# Altium schematic symbol library yu0316-NSC_LDO.SchLib: 2590 symbols (part 46 of 64)
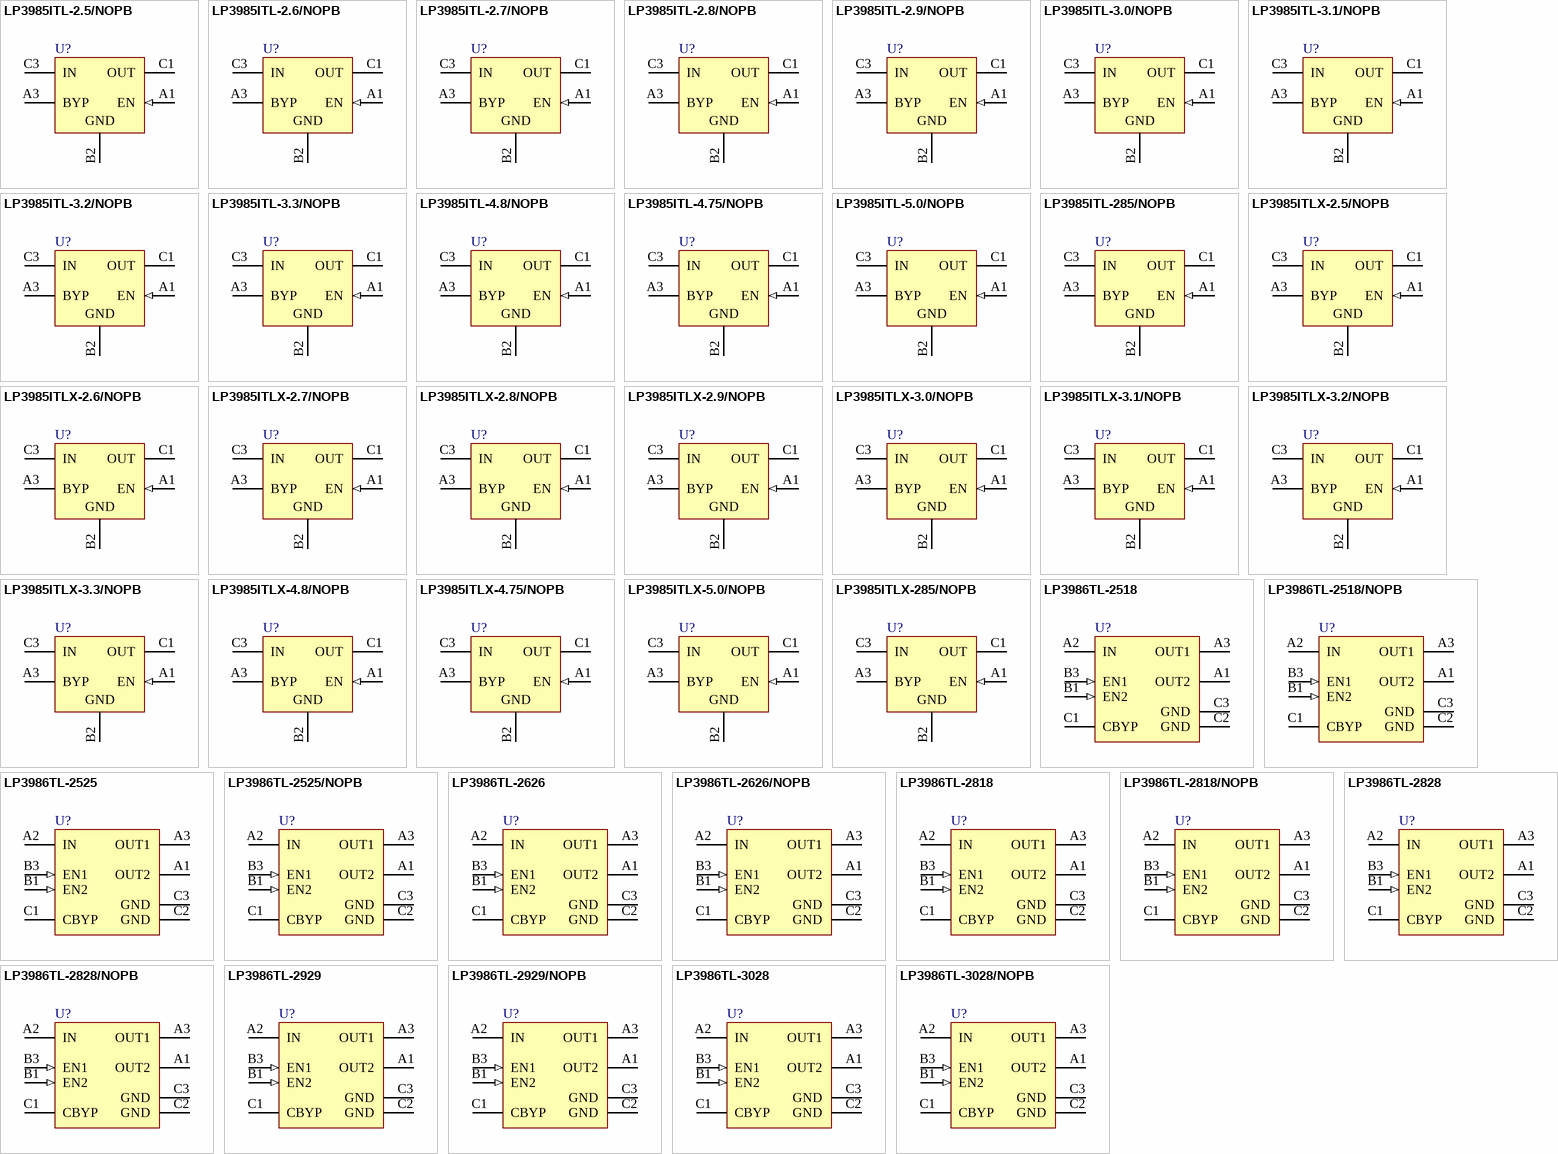
[diagram p110: symbols LP3985ITL-2.5/NOPB to LP3986TL-3028/NOPB]

## LP3985ITLX-2.5/NOPB
designator U?
Micropower, 150mA Low-Noise Ultra Low-Dropout CMOS Voltage Regulator, 5-pin Micro SMD, Pb-Free; PartNumber: LP3985ITLX-2.5/NOPB; Manufacturer: National Semiconductor; PackageTopMarking: XV*I 5; PowerWise: N; CompType: LDO IC; Published: 1-Mar-2010; DatasheetVersion: Aug-2005; PackageVersion: revC, Feb-2005; PackageReference: TLA05AEA; Publisher: Altium Limited; PackageDescription: Thin Micro SMD, 5 Bump (Large), 0.5mm Pitch; Supplier 1: Digi-Key; Supplier Part Number 1: LP3985ITLX-2.5/NOPBTR-ND; Supplier 2: Digi-Key; Supplier Part Number 2: LP3985ITLX-2.5/NOPBCT-ND; RoHS: Y; PinCount: 5; ComponentLink1Description: LP3985 Datasheet; ComponentLink1URL: http://www.national.com/ds/LP/LP3985.pdf; ComponentLink2Description: LP3985 Web Page; ComponentLink2URL: http://www.national.com/pf/LP/LP3985.html; ComponentLink3Description: TLA05AEA Package Page; ComponentLink3URL: http://www.national.com/packaging/folders/tla05aea.html
footprint TLA05AEA (Micro SMD, 5-Leads, Body 1.45x1.01mm, Pitch 0.5mm, NSC Recommended)
pins: A1 EN (in), A3 BYP, B2 GND (power), C1 OUT (power), C3 IN (power)

## LP3985ITLX-2.6/NOPB
designator U?
Micropower, 150mA Low-Noise Ultra Low-Dropout CMOS Voltage Regulator, 5-pin Micro SMD, Pb-Free; PartNumber: LP3985ITLX-2.6/NOPB; Manufacturer: National Semiconductor; PackageTopMarking: XV*I 5; PowerWise: N; CompType: LDO IC; Published: 1-Mar-2010; DatasheetVersion: Aug-2005; PackageVersion: revC, Feb-2005; PackageReference: TLA05AEA; Publisher: Altium Limited; PackageDescription: Thin Micro SMD, 5 Bump (Large), 0.5mm Pitch; Supplier 1: Digi-Key; Supplier Part Number 1: LP3985ITLX-2.6-ND; RoHS: Y; PinCount: 5; ComponentLink1Description: LP3985 Datasheet; ComponentLink1URL: http://www.national.com/ds/LP/LP3985.pdf; ComponentLink2Description: LP3985 Web Page; ComponentLink2URL: http://www.national.com/pf/LP/LP3985.html; ComponentLink3Description: TLA05AEA Package Page; ComponentLink3URL: http://www.national.com/packaging/folders/tla05aea.html
footprint TLA05AEA (Micro SMD, 5-Leads, Body 1.45x1.01mm, Pitch 0.5mm, NSC Recommended)
pins: A1 EN (in), A3 BYP, B2 GND (power), C1 OUT (power), C3 IN (power)

## LP3985ITLX-2.7/NOPB
designator U?
Micropower, 150mA Low-Noise Ultra Low-Dropout CMOS Voltage Regulator, 5-pin Micro SMD, Pb-Free; PartNumber: LP3985ITLX-2.7/NOPB; Manufacturer: National Semiconductor; PackageTopMarking: XV*I 5; PowerWise: N; CompType: LDO IC; Published: 1-Mar-2010; DatasheetVersion: Aug-2005; PackageVersion: revC, Feb-2005; PackageReference: TLA05AEA; Publisher: Altium Limited; PackageDescription: Thin Micro SMD, 5 Bump (Large), 0.5mm Pitch; Supplier 1: Digi-Key; Supplier Part Number 1: LP3985ITLX-2.7-ND; RoHS: Y; PinCount: 5; ComponentLink1Description: LP3985 Datasheet; ComponentLink1URL: http://www.national.com/ds/LP/LP3985.pdf; ComponentLink2Description: LP3985 Web Page; ComponentLink2URL: http://www.national.com/pf/LP/LP3985.html; ComponentLink3Description: TLA05AEA Package Page; ComponentLink3URL: http://www.national.com/packaging/folders/tla05aea.html
footprint TLA05AEA (Micro SMD, 5-Leads, Body 1.45x1.01mm, Pitch 0.5mm, NSC Recommended)
pins: A1 EN (in), A3 BYP, B2 GND (power), C1 OUT (power), C3 IN (power)

## LP3985ITLX-2.8/NOPB
designator U?
Micropower, 150mA Low-Noise Ultra Low-Dropout CMOS Voltage Regulator, 5-pin Micro SMD, Pb-Free; PartNumber: LP3985ITLX-2.8/NOPB; Manufacturer: National Semiconductor; PackageTopMarking: XV*I 5; PowerWise: N; CompType: LDO IC; Published: 1-Mar-2010; DatasheetVersion: Aug-2005; PackageVersion: revC, Feb-2005; PackageReference: TLA05AEA; Publisher: Altium Limited; PackageDescription: Thin Micro SMD, 5 Bump (Large), 0.5mm Pitch; Supplier 1: Digi-Key; Supplier Part Number 1: LP3985ITLX-2.8-ND; RoHS: Y; PinCount: 5; ComponentLink1Description: LP3985 Datasheet; ComponentLink1URL: http://www.national.com/ds/LP/LP3985.pdf; ComponentLink2Description: LP3985 Web Page; ComponentLink2URL: http://www.national.com/pf/LP/LP3985.html; ComponentLink3Description: TLA05AEA Package Page; ComponentLink3URL: http://www.national.com/packaging/folders/tla05aea.html
footprint TLA05AEA (Micro SMD, 5-Leads, Body 1.45x1.01mm, Pitch 0.5mm, NSC Recommended)
pins: A1 EN (in), A3 BYP, B2 GND (power), C1 OUT (power), C3 IN (power)

## LP3985ITLX-2.9/NOPB
designator U?
Micropower, 150mA Low-Noise Ultra Low-Dropout CMOS Voltage Regulator, 5-pin Micro SMD, Pb-Free; PartNumber: LP3985ITLX-2.9/NOPB; Manufacturer: National Semiconductor; PackageTopMarking: XV*I 5; PowerWise: N; CompType: LDO IC; Published: 1-Mar-2010; DatasheetVersion: Aug-2005; PackageVersion: revC, Feb-2005; PackageReference: TLA05AEA; Publisher: Altium Limited; PackageDescription: Thin Micro SMD, 5 Bump (Large), 0.5mm Pitch; Supplier 1: Digi-Key; Supplier Part Number 1: LP3985ITLX-2.9-ND; RoHS: Y; PinCount: 5; ComponentLink1Description: LP3985 Datasheet; ComponentLink1URL: http://www.national.com/ds/LP/LP3985.pdf; ComponentLink2Description: LP3985 Web Page; ComponentLink2URL: http://www.national.com/pf/LP/LP3985.html; ComponentLink3Description: TLA05AEA Package Page; ComponentLink3URL: http://www.national.com/packaging/folders/tla05aea.html
footprint TLA05AEA (Micro SMD, 5-Leads, Body 1.45x1.01mm, Pitch 0.5mm, NSC Recommended)
pins: A1 EN (in), A3 BYP, B2 GND (power), C1 OUT (power), C3 IN (power)

## LP3985ITLX-3.0/NOPB
designator U?
Micropower, 150mA Low-Noise Ultra Low-Dropout CMOS Voltage Regulator, 5-pin Micro SMD, Pb-Free; PartNumber: LP3985ITLX-3.0/NOPB; Manufacturer: National Semiconductor; PackageTopMarking: XV*I 5; PowerWise: N; CompType: LDO IC; Published: 1-Mar-2010; DatasheetVersion: Aug-2005; PackageVersion: revC, Feb-2005; PackageReference: TLA05AEA; Publisher: Altium Limited; PackageDescription: Thin Micro SMD, 5 Bump (Large), 0.5mm Pitch; Supplier 1: Digi-Key; Supplier Part Number 1: LP3985ITLX-3.0-ND; RoHS: Y; PinCount: 5; ComponentLink1Description: LP3985 Datasheet; ComponentLink1URL: http://www.national.com/ds/LP/LP3985.pdf; ComponentLink2Description: LP3985 Web Page; ComponentLink2URL: http://www.national.com/pf/LP/LP3985.html; ComponentLink3Description: TLA05AEA Package Page; ComponentLink3URL: http://www.national.com/packaging/folders/tla05aea.html
footprint TLA05AEA (Micro SMD, 5-Leads, Body 1.45x1.01mm, Pitch 0.5mm, NSC Recommended)
pins: A1 EN (in), A3 BYP, B2 GND (power), C1 OUT (power), C3 IN (power)

## LP3985ITLX-3.1/NOPB
designator U?
Micropower, 150mA Low-Noise Ultra Low-Dropout CMOS Voltage Regulator, 5-pin Micro SMD, Pb-Free; PartNumber: LP3985ITLX-3.1/NOPB; Manufacturer: National Semiconductor; PackageTopMarking: XV*I 5; PowerWise: N; CompType: LDO IC; Published: 1-Mar-2010; DatasheetVersion: Aug-2005; PackageVersion: revC, Feb-2005; PackageReference: TLA05AEA; Publisher: Altium Limited; PackageDescription: Thin Micro SMD, 5 Bump (Large), 0.5mm Pitch; Supplier 1: Digi-Key; Supplier Part Number 1: LP3985ITLX-3.1-ND; RoHS: Y; PinCount: 5; ComponentLink1Description: LP3985 Datasheet; ComponentLink1URL: http://www.national.com/ds/LP/LP3985.pdf; ComponentLink2Description: LP3985 Web Page; ComponentLink2URL: http://www.national.com/pf/LP/LP3985.html; ComponentLink3Description: TLA05AEA Package Page; ComponentLink3URL: http://www.national.com/packaging/folders/tla05aea.html
footprint TLA05AEA (Micro SMD, 5-Leads, Body 1.45x1.01mm, Pitch 0.5mm, NSC Recommended)
pins: A1 EN (in), A3 BYP, B2 GND (power), C1 OUT (power), C3 IN (power)

## LP3985ITLX-3.2/NOPB
designator U?
Micropower, 150mA Low-Noise Ultra Low-Dropout CMOS Voltage Regulator, 5-pin Micro SMD, Pb-Free; PartNumber: LP3985ITLX-3.2/NOPB; Manufacturer: National Semiconductor; PackageTopMarking: XV*I 5; PowerWise: N; CompType: LDO IC; Published: 1-Mar-2010; DatasheetVersion: Aug-2005; PackageVersion: revC, Feb-2005; PackageReference: TLA05AEA; Publisher: Altium Limited; PackageDescription: Thin Micro SMD, 5 Bump (Large), 0.5mm Pitch; Supplier 1: Digi-Key; Supplier Part Number 1: LP3985ITLX-3.2-ND; RoHS: Y; PinCount: 5; ComponentLink1Description: LP3985 Datasheet; ComponentLink1URL: http://www.national.com/ds/LP/LP3985.pdf; ComponentLink2Description: LP3985 Web Page; ComponentLink2URL: http://www.national.com/pf/LP/LP3985.html; ComponentLink3Description: TLA05AEA Package Page; ComponentLink3URL: http://www.national.com/packaging/folders/tla05aea.html
footprint TLA05AEA (Micro SMD, 5-Leads, Body 1.45x1.01mm, Pitch 0.5mm, NSC Recommended)
pins: A1 EN (in), A3 BYP, B2 GND (power), C1 OUT (power), C3 IN (power)

## LP3985ITLX-3.3/NOPB
designator U?
Micropower, 150mA Low-Noise Ultra Low-Dropout CMOS Voltage Regulator, 5-pin Micro SMD, Pb-Free; PartNumber: LP3985ITLX-3.3/NOPB; Manufacturer: National Semiconductor; PackageTopMarking: XV*I 5; PowerWise: N; CompType: LDO IC; Published: 1-Mar-2010; DatasheetVersion: Aug-2005; PackageVersion: revC, Feb-2005; PackageReference: TLA05AEA; Publisher: Altium Limited; PackageDescription: Thin Micro SMD, 5 Bump (Large), 0.5mm Pitch; Supplier 1: Digi-Key; Supplier Part Number 1: LP3985ITLX-3.3-ND; RoHS: Y; PinCount: 5; ComponentLink1Description: LP3985 Datasheet; ComponentLink1URL: http://www.national.com/ds/LP/LP3985.pdf; ComponentLink2Description: LP3985 Web Page; ComponentLink2URL: http://www.national.com/pf/LP/LP3985.html; ComponentLink3Description: TLA05AEA Package Page; ComponentLink3URL: http://www.national.com/packaging/folders/tla05aea.html
footprint TLA05AEA (Micro SMD, 5-Leads, Body 1.45x1.01mm, Pitch 0.5mm, NSC Recommended)
pins: A1 EN (in), A3 BYP, B2 GND (power), C1 OUT (power), C3 IN (power)

## LP3985ITLX-4.8/NOPB
designator U?
Micropower, 150mA Low-Noise Ultra Low-Dropout CMOS Voltage Regulator, 5-pin Micro SMD, Pb-Free; PartNumber: LP3985ITLX-4.8/NOPB; Manufacturer: National Semiconductor; PackageTopMarking: XV*I 5; PowerWise: N; CompType: LDO IC; Published: 1-Mar-2010; DatasheetVersion: Aug-2005; PackageVersion: revC, Feb-2005; PackageReference: TLA05AEA; Publisher: Altium Limited; PackageDescription: Thin Micro SMD, 5 Bump (Large), 0.5mm Pitch; Supplier 1: Digi-Key; Supplier Part Number 1: LP3985ITLX-4.8-ND; RoHS: Y; PinCount: 5; ComponentLink1Description: LP3985 Datasheet; ComponentLink1URL: http://www.national.com/ds/LP/LP3985.pdf; ComponentLink2Description: LP3985 Web Page; ComponentLink2URL: http://www.national.com/pf/LP/LP3985.html; ComponentLink3Description: TLA05AEA Package Page; ComponentLink3URL: http://www.national.com/packaging/folders/tla05aea.html
footprint TLA05AEA (Micro SMD, 5-Leads, Body 1.45x1.01mm, Pitch 0.5mm, NSC Recommended)
pins: A1 EN (in), A3 BYP, B2 GND (power), C1 OUT (power), C3 IN (power)

## LP3985ITLX-4.75/NOPB
designator U?
Micropower, 150mA Low-Noise Ultra Low-Dropout CMOS Voltage Regulator, 5-pin Micro SMD, Pb-Free; PartNumber: LP3985ITLX-4.75/NOPB; Manufacturer: National Semiconductor; PackageTopMarking: XV*I 5; PowerWise: N; CompType: LDO IC; Published: 1-Mar-2010; DatasheetVersion: Aug-2005; PackageVersion: revC, Feb-2005; PackageReference: TLA05AEA; Publisher: Altium Limited; PackageDescription: Thin Micro SMD, 5 Bump (Large), 0.5mm Pitch; Supplier 1: Digi-Key; Supplier Part Number 1: LP3985ITLX-4.75-ND; RoHS: Y; PinCount: 5; ComponentLink1Description: LP3985 Datasheet; ComponentLink1URL: http://www.national.com/ds/LP/LP3985.pdf; ComponentLink2Description: LP3985 Web Page; ComponentLink2URL: http://www.national.com/pf/LP/LP3985.html; ComponentLink3Description: TLA05AEA Package Page; ComponentLink3URL: http://www.national.com/packaging/folders/tla05aea.html
footprint TLA05AEA (Micro SMD, 5-Leads, Body 1.45x1.01mm, Pitch 0.5mm, NSC Recommended)
pins: A1 EN (in), A3 BYP, B2 GND (power), C1 OUT (power), C3 IN (power)

## LP3985ITLX-5.0/NOPB
designator U?
Micropower, 150mA Low-Noise Ultra Low-Dropout CMOS Voltage Regulator, 5-pin Micro SMD, Pb-Free; PartNumber: LP3985ITLX-5.0/NOPB; Manufacturer: National Semiconductor; PackageTopMarking: XV*I 5; PowerWise: N; CompType: LDO IC; Published: 1-Mar-2010; DatasheetVersion: Aug-2005; PackageVersion: revC, Feb-2005; PackageReference: TLA05AEA; Publisher: Altium Limited; PackageDescription: Thin Micro SMD, 5 Bump (Large), 0.5mm Pitch; Supplier 1: Digi-Key; Supplier Part Number 1: LP3985ITLX-5.0-ND; RoHS: Y; PinCount: 5; ComponentLink1Description: LP3985 Datasheet; ComponentLink1URL: http://www.national.com/ds/LP/LP3985.pdf; ComponentLink2Description: LP3985 Web Page; ComponentLink2URL: http://www.national.com/pf/LP/LP3985.html; ComponentLink3Description: TLA05AEA Package Page; ComponentLink3URL: http://www.national.com/packaging/folders/tla05aea.html
footprint TLA05AEA (Micro SMD, 5-Leads, Body 1.45x1.01mm, Pitch 0.5mm, NSC Recommended)
pins: A1 EN (in), A3 BYP, B2 GND (power), C1 OUT (power), C3 IN (power)

## LP3985ITLX-285/NOPB
designator U?
Micropower, 150mA Low-Noise Ultra Low-Dropout CMOS Voltage Regulator, 5-pin Micro SMD, Pb-Free; PartNumber: LP3985ITLX-285/NOPB; Manufacturer: National Semiconductor; PackageTopMarking: XV*I 5; PowerWise: N; CompType: LDO IC; Published: 1-Mar-2010; DatasheetVersion: Aug-2005; PackageVersion: revC, Feb-2005; PackageReference: TLA05AEA; Publisher: Altium Limited; PackageDescription: Thin Micro SMD, 5 Bump (Large), 0.5mm Pitch; Supplier 1: Digi-Key; Supplier Part Number 1: LP3985ITLX-285-ND; RoHS: Y; PinCount: 5; ComponentLink1Description: LP3985 Datasheet; ComponentLink1URL: http://www.national.com/ds/LP/LP3985.pdf; ComponentLink2Description: LP3985 Web Page; ComponentLink2URL: http://www.national.com/pf/LP/LP3985.html; ComponentLink3Description: TLA05AEA Package Page; ComponentLink3URL: http://www.national.com/packaging/folders/tla05aea.html
footprint TLA05AEA (Micro SMD, 5-Leads, Body 1.45x1.01mm, Pitch 0.5mm, NSC Recommended)
pins: A1 EN (in), A3 BYP, B2 GND (power), C1 OUT (power), C3 IN (power)

## LP3986TL-2518
designator U?
Dual Micropower 150 mA Ultra Low-Dropout CMOS Voltage Regulators, 8-pin Micro SMD; PartNumber: LP3986TL-2518; Manufacturer: National Semiconductor; PackageTopMarking: XVD*I 30; PowerWise: N; CompType: LDO IC; Published: 4-Dec-2008; DatasheetVersion: Feb-2007; PackageVersion: revC, Jan-2004; PackageReference: TLA08CCA; Publisher: Altium Limited; PackageDescription: Thin Micro SMD, 8 Bump (Large), 0.5mm Pitch; RoHS: Y; PinCount: 8; Code_JEDEC: MO-211-DD; ComponentLink1Description: LP3986 Datasheet; ComponentLink1URL: http://www.national.com/ds/LP/LP3986.pdf; ComponentLink2Description: LP3986 Web Page; ComponentLink2URL: http://www.national.com/pf/LP/LP3986.html; ComponentLink3Description: TLA08CCA Package Page; ComponentLink3URL: http://www.national.com/packaging/folders/tla08cca.html
footprint TLA08CCA (Micro SMD, 8-Leads, Body 1.57x1.57mm, Pitch 0.5mm, NSC Recommended)
pins: A1 OUT2 (power), A2 IN (power), A3 OUT1 (power), B1 EN2 (in), B3 EN1 (in), C1 CBYP, C2 GND (power), C3 GND (power)

## LP3986TL-2518/NOPB
designator U?
Dual Micropower 150 mA Ultra Low-Dropout CMOS Voltage Regulators, 8-pin Micro SMD, Pb-Free; PartNumber: LP3986TL-2518/NOPB; Manufacturer: National Semiconductor; PackageTopMarking: XVD*I 30; PowerWise: N; CompType: LDO IC; Published: 1-Mar-2010; DatasheetVersion: Feb-2007; PackageVersion: revC, Jan-2004; PackageReference: TLA08CCA; Publisher: Altium Limited; PackageDescription: Thin Micro SMD, 8 Bump (Large), 0.5mm Pitch; Supplier 1: Digi-Key; Supplier Part Number 1: LP3986TL-2518TR-ND; Supplier 2: Digi-Key; Supplier Part Number 2: LP3986TL-2518CT-ND; Supplier 3: Digi-Key; Supplier Part Number 3: LP3986TL-2518DKR-ND; RoHS: Y; PinCount: 8; Code_JEDEC: MO-211-DD; ComponentLink1Description: LP3986 Datasheet; ComponentLink1URL: http://www.national.com/ds/LP/LP3986.pdf; ComponentLink2Description: LP3986 Web Page; ComponentLink2URL: http://www.national.com/pf/LP/LP3986.html; ComponentLink3Description: TLA08CCA Package Page; ComponentLink3URL: http://www.national.com/packaging/folders/tla08cca.html
footprint TLA08CCA (Micro SMD, 8-Leads, Body 1.57x1.57mm, Pitch 0.5mm, NSC Recommended)
pins: A1 OUT2 (power), A2 IN (power), A3 OUT1 (power), B1 EN2 (in), B3 EN1 (in), C1 CBYP, C2 GND (power), C3 GND (power)

## LP3986TL-2525
designator U?
Dual Micropower 150 mA Ultra Low-Dropout CMOS Voltage Regulators, 8-pin Micro SMD; PartNumber: LP3986TL-2525; Manufacturer: National Semiconductor; PackageTopMarking: XVD*I 27; PowerWise: N; CompType: LDO IC; Published: 4-Dec-2008; DatasheetVersion: Feb-2007; PackageVersion: revC, Jan-2004; PackageReference: TLA08CCA; Publisher: Altium Limited; PackageDescription: Thin Micro SMD, 8 Bump (Large), 0.5mm Pitch; Supplier 1: Farnell; Supplier Part Number 1: 1008071; RoHS: Y; PinCount: 8; Code_JEDEC: MO-211-DD; ComponentLink1Description: LP3986 Datasheet; ComponentLink1URL: http://www.national.com/ds/LP/LP3986.pdf; ComponentLink2Description: LP3986 Web Page; ComponentLink2URL: http://www.national.com/pf/LP/LP3986.html; ComponentLink3Description: TLA08CCA Package Page; ComponentLink3URL: http://www.national.com/packaging/folders/tla08cca.html
footprint TLA08CCA (Micro SMD, 8-Leads, Body 1.57x1.57mm, Pitch 0.5mm, NSC Recommended)
pins: A1 OUT2 (power), A2 IN (power), A3 OUT1 (power), B1 EN2 (in), B3 EN1 (in), C1 CBYP, C2 GND (power), C3 GND (power)

## LP3986TL-2525/NOPB
designator U?
Dual Micropower 150 mA Ultra Low-Dropout CMOS Voltage Regulators, 8-pin Micro SMD, Pb-Free; PartNumber: LP3986TL-2525/NOPB; Manufacturer: National Semiconductor; PackageTopMarking: XVD*I 27; PowerWise: N; CompType: LDO IC; Published: 1-Mar-2010; DatasheetVersion: Feb-2007; PackageVersion: revC, Jan-2004; PackageReference: TLA08CCA; Publisher: Altium Limited; PackageDescription: Thin Micro SMD, 8 Bump (Large), 0.5mm Pitch; Supplier 1: Digi-Key; Supplier Part Number 1: LP3986TL-2525TR-ND; Supplier 2: Digi-Key; Supplier Part Number 2: LP3986TL-2525CT-ND; Supplier 3: Digi-Key; Supplier Part Number 3: LP3986TL-2525DKR-ND; RoHS: Y; PinCount: 8; Code_JEDEC: MO-211-DD; ComponentLink1Description: LP3986 Datasheet; ComponentLink1URL: http://www.national.com/ds/LP/LP3986.pdf; ComponentLink2Description: LP3986 Web Page; ComponentLink2URL: http://www.national.com/pf/LP/LP3986.html; ComponentLink3Description: TLA08CCA Package Page; ComponentLink3URL: http://www.national.com/packaging/folders/tla08cca.html
footprint TLA08CCA (Micro SMD, 8-Leads, Body 1.57x1.57mm, Pitch 0.5mm, NSC Recommended)
pins: A1 OUT2 (power), A2 IN (power), A3 OUT1 (power), B1 EN2 (in), B3 EN1 (in), C1 CBYP, C2 GND (power), C3 GND (power)

## LP3986TL-2626
designator U?
Dual Micropower 150 mA Ultra Low-Dropout CMOS Voltage Regulators, 8-pin Micro SMD; PartNumber: LP3986TL-2626; Manufacturer: National Semiconductor; PackageTopMarking: XVD*I 28; PowerWise: N; CompType: LDO IC; Published: 4-Dec-2008; DatasheetVersion: Feb-2007; PackageVersion: revC, Jan-2004; PackageReference: TLA08CCA; Publisher: Altium Limited; PackageDescription: Thin Micro SMD, 8 Bump (Large), 0.5mm Pitch; Supplier 1: Farnell; Supplier Part Number 1: 1008072; RoHS: Y; PinCount: 8; Code_JEDEC: MO-211-DD; ComponentLink1Description: LP3986 Datasheet; ComponentLink1URL: http://www.national.com/ds/LP/LP3986.pdf; ComponentLink2Description: LP3986 Web Page; ComponentLink2URL: http://www.national.com/pf/LP/LP3986.html; ComponentLink3Description: TLA08CCA Package Page; ComponentLink3URL: http://www.national.com/packaging/folders/tla08cca.html
footprint TLA08CCA (Micro SMD, 8-Leads, Body 1.57x1.57mm, Pitch 0.5mm, NSC Recommended)
pins: A1 OUT2 (power), A2 IN (power), A3 OUT1 (power), B1 EN2 (in), B3 EN1 (in), C1 CBYP, C2 GND (power), C3 GND (power)

## LP3986TL-2626/NOPB
designator U?
Dual Micropower 150 mA Ultra Low-Dropout CMOS Voltage Regulators, 8-pin Micro SMD, Pb-Free; PartNumber: LP3986TL-2626/NOPB; Manufacturer: National Semiconductor; PackageTopMarking: XVD*I 28; PowerWise: N; CompType: LDO IC; Published: 1-Mar-2010; DatasheetVersion: Feb-2007; PackageVersion: revC, Jan-2004; PackageReference: TLA08CCA; Publisher: Altium Limited; PackageDescription: Thin Micro SMD, 8 Bump (Large), 0.5mm Pitch; Supplier 1: Digi-Key; Supplier Part Number 1: LP3986TL-2626TR-ND; Supplier 2: Digi-Key; Supplier Part Number 2: LP3986TL-2626CT-ND; RoHS: Y; PinCount: 8; Code_JEDEC: MO-211-DD; ComponentLink1Description: LP3986 Datasheet; ComponentLink1URL: http://www.national.com/ds/LP/LP3986.pdf; ComponentLink2Description: LP3986 Web Page; ComponentLink2URL: http://www.national.com/pf/LP/LP3986.html; ComponentLink3Description: TLA08CCA Package Page; ComponentLink3URL: http://www.national.com/packaging/folders/tla08cca.html
footprint TLA08CCA (Micro SMD, 8-Leads, Body 1.57x1.57mm, Pitch 0.5mm, NSC Recommended)
pins: A1 OUT2 (power), A2 IN (power), A3 OUT1 (power), B1 EN2 (in), B3 EN1 (in), C1 CBYP, C2 GND (power), C3 GND (power)

## LP3986TL-2818
designator U?
Dual Micropower 150 mA Ultra Low-Dropout CMOS Voltage Regulators, 8-pin Micro SMD; PartNumber: LP3986TL-2818; Manufacturer: National Semiconductor; PackageTopMarking: XVD*I 25; PowerWise: N; CompType: LDO IC; Published: 4-Dec-2008; DatasheetVersion: Feb-2007; PackageVersion: revC, Jan-2004; PackageReference: TLA08CCA; Publisher: Altium Limited; PackageDescription: Thin Micro SMD, 8 Bump (Large), 0.5mm Pitch; RoHS: Y; PinCount: 8; Code_JEDEC: MO-211-DD; ComponentLink1Description: LP3986 Datasheet; ComponentLink1URL: http://www.national.com/ds/LP/LP3986.pdf; ComponentLink2Description: LP3986 Web Page; ComponentLink2URL: http://www.national.com/pf/LP/LP3986.html; ComponentLink3Description: TLA08CCA Package Page; ComponentLink3URL: http://www.national.com/packaging/folders/tla08cca.html
footprint TLA08CCA (Micro SMD, 8-Leads, Body 1.57x1.57mm, Pitch 0.5mm, NSC Recommended)
pins: A1 OUT2 (power), A2 IN (power), A3 OUT1 (power), B1 EN2 (in), B3 EN1 (in), C1 CBYP, C2 GND (power), C3 GND (power)

## LP3986TL-2818/NOPB
designator U?
Dual Micropower 150 mA Ultra Low-Dropout CMOS Voltage Regulators, 8-pin Micro SMD, Pb-Free; PartNumber: LP3986TL-2818/NOPB; Manufacturer: National Semiconductor; PackageTopMarking: XVD*I 25; PowerWise: N; CompType: LDO IC; Published: 1-Mar-2010; DatasheetVersion: Feb-2007; PackageVersion: revC, Jan-2004; PackageReference: TLA08CCA; Publisher: Altium Limited; PackageDescription: Thin Micro SMD, 8 Bump (Large), 0.5mm Pitch; Supplier 1: Digi-Key; Supplier Part Number 1: LP3986TL-2818TR-ND; Supplier 2: Digi-Key; Supplier Part Number 2: LP3986TL-2818CT-ND; Supplier 3: Digi-Key; Supplier Part Number 3: LP3986TL-2818DKR-ND; RoHS: Y; PinCount: 8; Code_JEDEC: MO-211-DD; ComponentLink1Description: LP3986 Datasheet; ComponentLink1URL: http://www.national.com/ds/LP/LP3986.pdf; ComponentLink2Description: LP3986 Web Page; ComponentLink2URL: http://www.national.com/pf/LP/LP3986.html; ComponentLink3Description: TLA08CCA Package Page; ComponentLink3URL: http://www.national.com/packaging/folders/tla08cca.html
footprint TLA08CCA (Micro SMD, 8-Leads, Body 1.57x1.57mm, Pitch 0.5mm, NSC Recommended)
pins: A1 OUT2 (power), A2 IN (power), A3 OUT1 (power), B1 EN2 (in), B3 EN1 (in), C1 CBYP, C2 GND (power), C3 GND (power)

## LP3986TL-2828
designator U?
Dual Micropower 150 mA Ultra Low-Dropout CMOS Voltage Regulators, 8-pin Micro SMD; PartNumber: LP3986TL-2828; Manufacturer: National Semiconductor; PackageTopMarking: XVD*I 10; PowerWise: N; CompType: LDO IC; Published: 4-Dec-2008; DatasheetVersion: Feb-2007; PackageVersion: revC, Jan-2004; PackageReference: TLA08CCA; Publisher: Altium Limited; PackageDescription: Thin Micro SMD, 8 Bump (Large), 0.5mm Pitch; RoHS: Y; PinCount: 8; Code_JEDEC: MO-211-DD; ComponentLink1Description: LP3986 Datasheet; ComponentLink1URL: http://www.national.com/ds/LP/LP3986.pdf; ComponentLink2Description: LP3986 Web Page; ComponentLink2URL: http://www.national.com/pf/LP/LP3986.html; ComponentLink3Description: TLA08CCA Package Page; ComponentLink3URL: http://www.national.com/packaging/folders/tla08cca.html
footprint TLA08CCA (Micro SMD, 8-Leads, Body 1.57x1.57mm, Pitch 0.5mm, NSC Recommended)
pins: A1 OUT2 (power), A2 IN (power), A3 OUT1 (power), B1 EN2 (in), B3 EN1 (in), C1 CBYP, C2 GND (power), C3 GND (power)

## LP3986TL-2828/NOPB
designator U?
Dual Micropower 150 mA Ultra Low-Dropout CMOS Voltage Regulators, 8-pin Micro SMD, Pb-Free; PartNumber: LP3986TL-2828/NOPB; Manufacturer: National Semiconductor; PackageTopMarking: XVD*I 10; PowerWise: N; CompType: LDO IC; Published: 1-Mar-2010; DatasheetVersion: Feb-2007; PackageVersion: revC, Jan-2004; PackageReference: TLA08CCA; Publisher: Altium Limited; PackageDescription: Thin Micro SMD, 8 Bump (Large), 0.5mm Pitch; Supplier 1: Digi-Key; Supplier Part Number 1: LP3986TL-2828TR-ND; Supplier 2: Digi-Key; Supplier Part Number 2: LP3986TL-2828CT-ND; Supplier 3: Digi-Key; Supplier Part Number 3: LP3986TL-2828DKR-ND; RoHS: Y; PinCount: 8; Code_JEDEC: MO-211-DD; ComponentLink1Description: LP3986 Datasheet; ComponentLink1URL: http://www.national.com/ds/LP/LP3986.pdf; ComponentLink2Description: LP3986 Web Page; ComponentLink2URL: http://www.national.com/pf/LP/LP3986.html; ComponentLink3Description: TLA08CCA Package Page; ComponentLink3URL: http://www.national.com/packaging/folders/tla08cca.html
footprint TLA08CCA (Micro SMD, 8-Leads, Body 1.57x1.57mm, Pitch 0.5mm, NSC Recommended)
pins: A1 OUT2 (power), A2 IN (power), A3 OUT1 (power), B1 EN2 (in), B3 EN1 (in), C1 CBYP, C2 GND (power), C3 GND (power)

## LP3986TL-2929
designator U?
Dual Micropower 150 mA Ultra Low-Dropout CMOS Voltage Regulators, 8-pin Micro SMD; PartNumber: LP3986TL-2929; Manufacturer: National Semiconductor; PackageTopMarking: XVD*I 15; PowerWise: N; CompType: LDO IC; Published: 4-Dec-2008; DatasheetVersion: Feb-2007; PackageVersion: revC, Jan-2004; PackageReference: TLA08CCA; Publisher: Altium Limited; PackageDescription: Thin Micro SMD, 8 Bump (Large), 0.5mm Pitch; RoHS: Y; PinCount: 8; Code_JEDEC: MO-211-DD; ComponentLink1Description: LP3986 Datasheet; ComponentLink1URL: http://www.national.com/ds/LP/LP3986.pdf; ComponentLink2Description: LP3986 Web Page; ComponentLink2URL: http://www.national.com/pf/LP/LP3986.html; ComponentLink3Description: TLA08CCA Package Page; ComponentLink3URL: http://www.national.com/packaging/folders/tla08cca.html
footprint TLA08CCA (Micro SMD, 8-Leads, Body 1.57x1.57mm, Pitch 0.5mm, NSC Recommended)
pins: A1 OUT2 (power), A2 IN (power), A3 OUT1 (power), B1 EN2 (in), B3 EN1 (in), C1 CBYP, C2 GND (power), C3 GND (power)

## LP3986TL-2929/NOPB
designator U?
Dual Micropower 150 mA Ultra Low-Dropout CMOS Voltage Regulators, 8-pin Micro SMD, Pb-Free; PartNumber: LP3986TL-2929/NOPB; Manufacturer: National Semiconductor; PackageTopMarking: XVD*I 15; PowerWise: N; CompType: LDO IC; Published: 1-Mar-2010; DatasheetVersion: Feb-2007; PackageVersion: revC, Jan-2004; PackageReference: TLA08CCA; Publisher: Altium Limited; PackageDescription: Thin Micro SMD, 8 Bump (Large), 0.5mm Pitch; Supplier 1: Digi-Key; Supplier Part Number 1: LP3986TL-2929TR-ND; Supplier 2: Digi-Key; Supplier Part Number 2: LP3986TL-2929CT-ND; RoHS: Y; PinCount: 8; Code_JEDEC: MO-211-DD; ComponentLink1Description: LP3986 Datasheet; ComponentLink1URL: http://www.national.com/ds/LP/LP3986.pdf; ComponentLink2Description: LP3986 Web Page; ComponentLink2URL: http://www.national.com/pf/LP/LP3986.html; ComponentLink3Description: TLA08CCA Package Page; ComponentLink3URL: http://www.national.com/packaging/folders/tla08cca.html
footprint TLA08CCA (Micro SMD, 8-Leads, Body 1.57x1.57mm, Pitch 0.5mm, NSC Recommended)
pins: A1 OUT2 (power), A2 IN (power), A3 OUT1 (power), B1 EN2 (in), B3 EN1 (in), C1 CBYP, C2 GND (power), C3 GND (power)

## LP3986TL-3028
designator U?
Dual Micropower 150 mA Ultra Low-Dropout CMOS Voltage Regulators, 8-pin Micro SMD; PartNumber: LP3986TL-3028; Manufacturer: National Semiconductor; PackageTopMarking: XVD*I 26; PowerWise: N; CompType: LDO IC; Published: 4-Dec-2008; DatasheetVersion: Feb-2007; PackageVersion: revC, Jan-2004; PackageReference: TLA08CCA; Publisher: Altium Limited; PackageDescription: Thin Micro SMD, 8 Bump (Large), 0.5mm Pitch; RoHS: Y; PinCount: 8; Code_JEDEC: MO-211-DD; ComponentLink1Description: LP3986 Datasheet; ComponentLink1URL: http://www.national.com/ds/LP/LP3986.pdf; ComponentLink2Description: LP3986 Web Page; ComponentLink2URL: http://www.national.com/pf/LP/LP3986.html; ComponentLink3Description: TLA08CCA Package Page; ComponentLink3URL: http://www.national.com/packaging/folders/tla08cca.html
footprint TLA08CCA (Micro SMD, 8-Leads, Body 1.57x1.57mm, Pitch 0.5mm, NSC Recommended)
pins: A1 OUT2 (power), A2 IN (power), A3 OUT1 (power), B1 EN2 (in), B3 EN1 (in), C1 CBYP, C2 GND (power), C3 GND (power)

## LP3986TL-3028/NOPB
designator U?
Dual Micropower 150 mA Ultra Low-Dropout CMOS Voltage Regulators, 8-pin Micro SMD, Pb-Free; PartNumber: LP3986TL-3028/NOPB; Manufacturer: National Semiconductor; PackageTopMarking: XVD*I 26; PowerWise: N; CompType: LDO IC; Published: 1-Mar-2010; DatasheetVersion: Feb-2007; PackageVersion: revC, Jan-2004; PackageReference: TLA08CCA; Publisher: Altium Limited; PackageDescription: Thin Micro SMD, 8 Bump (Large), 0.5mm Pitch; Supplier 1: Digi-Key; Supplier Part Number 1: LP3986TL-3028TR-ND; Supplier 2: Digi-Key; Supplier Part Number 2: LP3986TL-3028CT-ND; Supplier 3: Digi-Key; Supplier Part Number 3: LP3986TL-3028DKR-ND; RoHS: Y; PinCount: 8; Code_JEDEC: MO-211-DD; ComponentLink1Description: LP3986 Datasheet; ComponentLink1URL: http://www.national.com/ds/LP/LP3986.pdf; ComponentLink2Description: LP3986 Web Page; ComponentLink2URL: http://www.national.com/pf/LP/LP3986.html; ComponentLink3Description: TLA08CCA Package Page; ComponentLink3URL: http://www.national.com/packaging/folders/tla08cca.html
footprint TLA08CCA (Micro SMD, 8-Leads, Body 1.57x1.57mm, Pitch 0.5mm, NSC Recommended)
pins: A1 OUT2 (power), A2 IN (power), A3 OUT1 (power), B1 EN2 (in), B3 EN1 (in), C1 CBYP, C2 GND (power), C3 GND (power)

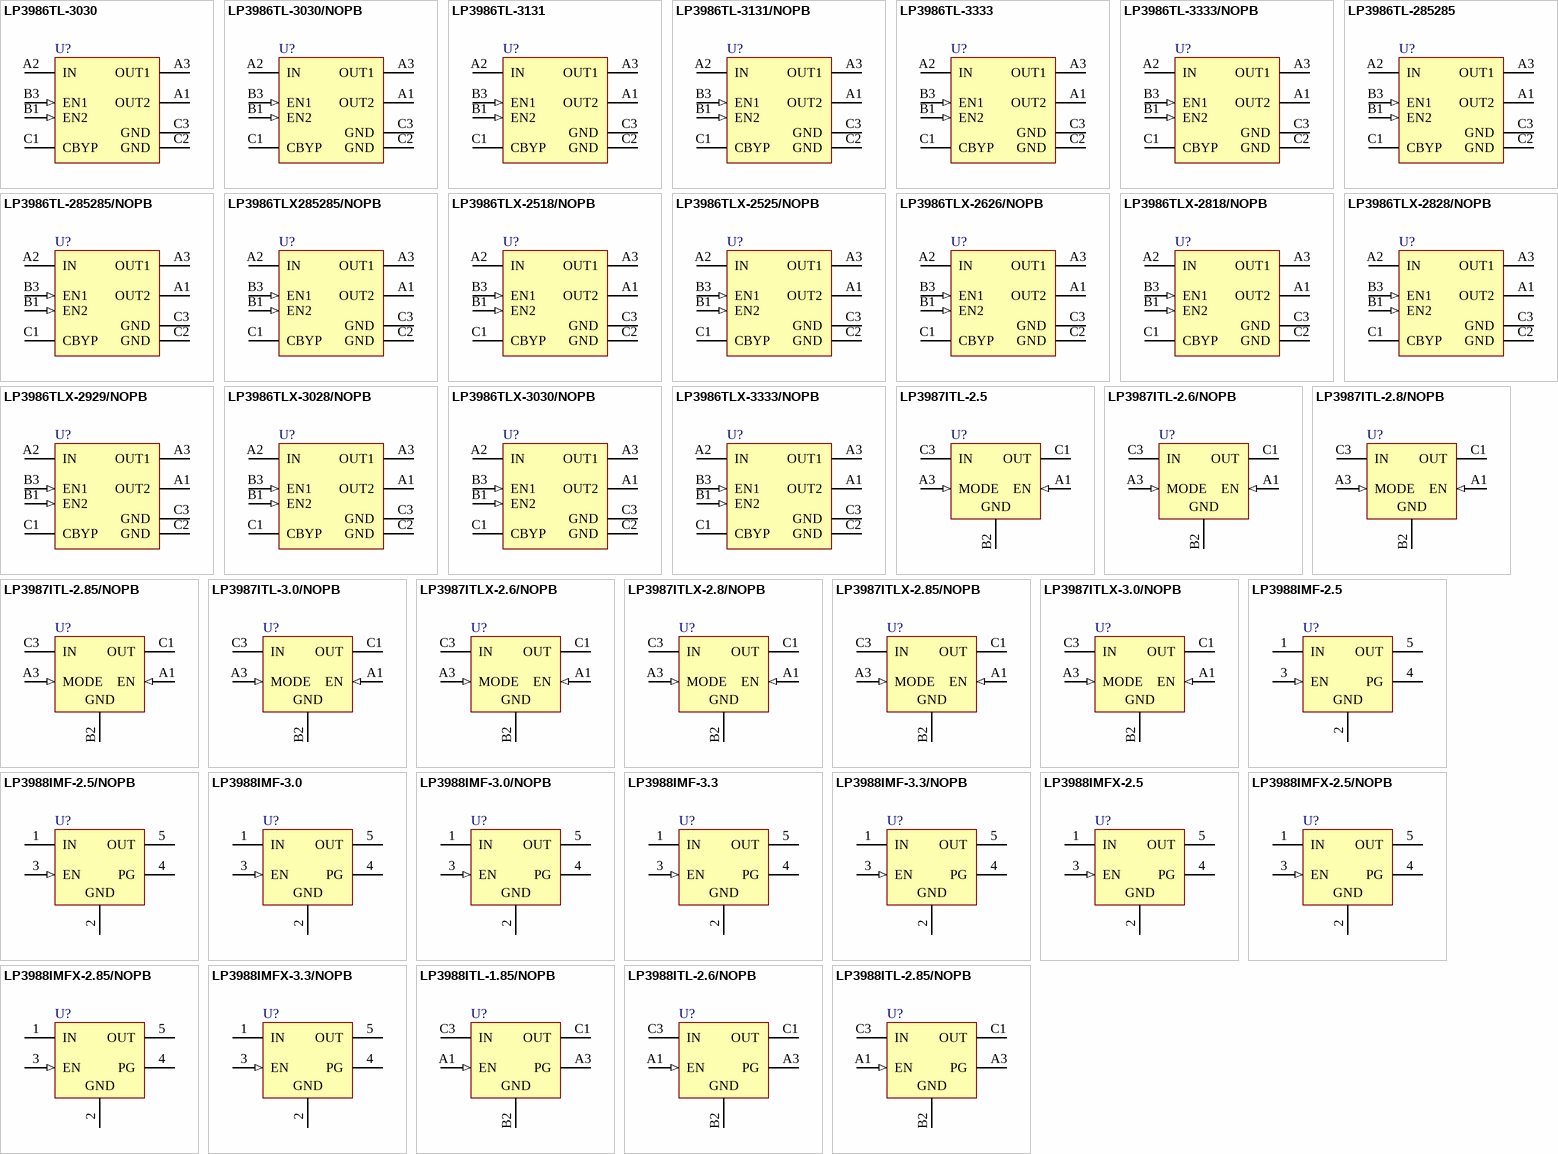
[diagram p47: symbols LP3986TL-3030 to LP3988ITL-2.85/NOPB]

## LP3986TL-3030
designator U?
Dual Micropower 150 mA Ultra Low-Dropout CMOS Voltage Regulators, 8-pin Micro SMD; PartNumber: LP3986TL-3030; Manufacturer: National Semiconductor; PackageTopMarking: XVD*I 12; PowerWise: N; CompType: LDO IC; Published: 4-Dec-2008; DatasheetVersion: Feb-2007; PackageVersion: revC, Jan-2004; PackageReference: TLA08CCA; Publisher: Altium Limited; PackageDescription: Thin Micro SMD, 8 Bump (Large), 0.5mm Pitch; RoHS: Y; PinCount: 8; Code_JEDEC: MO-211-DD; ComponentLink1Description: LP3986 Datasheet; ComponentLink1URL: http://www.national.com/ds/LP/LP3986.pdf; ComponentLink2Description: LP3986 Web Page; ComponentLink2URL: http://www.national.com/pf/LP/LP3986.html; ComponentLink3Description: TLA08CCA Package Page; ComponentLink3URL: http://www.national.com/packaging/folders/tla08cca.html
footprint TLA08CCA (Micro SMD, 8-Leads, Body 1.57x1.57mm, Pitch 0.5mm, NSC Recommended)
pins: A1 OUT2 (power), A2 IN (power), A3 OUT1 (power), B1 EN2 (in), B3 EN1 (in), C1 CBYP, C2 GND (power), C3 GND (power)

## LP3986TL-3030/NOPB
designator U?
Dual Micropower 150 mA Ultra Low-Dropout CMOS Voltage Regulators, 8-pin Micro SMD, Pb-Free; PartNumber: LP3986TL-3030/NOPB; Manufacturer: National Semiconductor; PackageTopMarking: XVD*I 12; PowerWise: N; CompType: LDO IC; Published: 1-Mar-2010; DatasheetVersion: Feb-2007; PackageVersion: revC, Jan-2004; PackageReference: TLA08CCA; Publisher: Altium Limited; PackageDescription: Thin Micro SMD, 8 Bump (Large), 0.5mm Pitch; Supplier 1: Digi-Key; Supplier Part Number 1: LP3986TL-3030TR-ND; Supplier 2: Digi-Key; Supplier Part Number 2: LP3986TL-3030CT-ND; Supplier 3: Digi-Key; Supplier Part Number 3: LP3986TL-3030DKR-ND; RoHS: Y; PinCount: 8; Code_JEDEC: MO-211-DD; ComponentLink1Description: LP3986 Datasheet; ComponentLink1URL: http://www.national.com/ds/LP/LP3986.pdf; ComponentLink2Description: LP3986 Web Page; ComponentLink2URL: http://www.national.com/pf/LP/LP3986.html; ComponentLink3Description: TLA08CCA Package Page; ComponentLink3URL: http://www.national.com/packaging/folders/tla08cca.html
footprint TLA08CCA (Micro SMD, 8-Leads, Body 1.57x1.57mm, Pitch 0.5mm, NSC Recommended)
pins: A1 OUT2 (power), A2 IN (power), A3 OUT1 (power), B1 EN2 (in), B3 EN1 (in), C1 CBYP, C2 GND (power), C3 GND (power)

## LP3986TL-3131
designator U?
Dual Micropower 150 mA Ultra Low-Dropout CMOS Voltage Regulators, 8-pin Micro SMD; PartNumber: LP3986TL-3131; Manufacturer: National Semiconductor; PackageTopMarking: XVD*I 13; PowerWise: N; CompType: LDO IC; Published: 4-Dec-2008; DatasheetVersion: Feb-2007; PackageVersion: revC, Jan-2004; PackageReference: TLA08CCA; Publisher: Altium Limited; PackageDescription: Thin Micro SMD, 8 Bump (Large), 0.5mm Pitch; RoHS: Y; PinCount: 8; Code_JEDEC: MO-211-DD; ComponentLink1Description: LP3986 Datasheet; ComponentLink1URL: http://www.national.com/ds/LP/LP3986.pdf; ComponentLink2Description: LP3986 Web Page; ComponentLink2URL: http://www.national.com/pf/LP/LP3986.html; ComponentLink3Description: TLA08CCA Package Page; ComponentLink3URL: http://www.national.com/packaging/folders/tla08cca.html
footprint TLA08CCA (Micro SMD, 8-Leads, Body 1.57x1.57mm, Pitch 0.5mm, NSC Recommended)
pins: A1 OUT2 (power), A2 IN (power), A3 OUT1 (power), B1 EN2 (in), B3 EN1 (in), C1 CBYP, C2 GND (power), C3 GND (power)

## LP3986TL-3131/NOPB
designator U?
Dual Micropower 150 mA Ultra Low-Dropout CMOS Voltage Regulators, 8-pin Micro SMD, Pb-Free; PartNumber: LP3986TL-3131/NOPB; Manufacturer: National Semiconductor; PackageTopMarking: XVD*I 13; PowerWise: N; CompType: LDO IC; Published: 1-Mar-2010; DatasheetVersion: Feb-2007; PackageVersion: revC, Jan-2004; PackageReference: TLA08CCA; Publisher: Altium Limited; PackageDescription: Thin Micro SMD, 8 Bump (Large), 0.5mm Pitch; Supplier 1: Digi-Key; Supplier Part Number 1: LP3986TL-3131TR-ND; Supplier 2: Digi-Key; Supplier Part Number 2: LP3986TL-3131CT-ND; RoHS: Y; PinCount: 8; Code_JEDEC: MO-211-DD; ComponentLink1Description: LP3986 Datasheet; ComponentLink1URL: http://www.national.com/ds/LP/LP3986.pdf; ComponentLink2Description: LP3986 Web Page; ComponentLink2URL: http://www.national.com/pf/LP/LP3986.html; ComponentLink3Description: TLA08CCA Package Page; ComponentLink3URL: http://www.national.com/packaging/folders/tla08cca.html
footprint TLA08CCA (Micro SMD, 8-Leads, Body 1.57x1.57mm, Pitch 0.5mm, NSC Recommended)
pins: A1 OUT2 (power), A2 IN (power), A3 OUT1 (power), B1 EN2 (in), B3 EN1 (in), C1 CBYP, C2 GND (power), C3 GND (power)

## LP3986TL-3333
designator U?
Dual Micropower 150 mA Ultra Low-Dropout CMOS Voltage Regulators, 8-pin Micro SMD; PartNumber: LP3986TL-3333; Manufacturer: National Semiconductor; PackageTopMarking: XVD*I 17; PowerWise: N; CompType: LDO IC; Published: 4-Dec-2008; DatasheetVersion: Feb-2007; PackageVersion: revC, Jan-2004; PackageReference: TLA08CCA; Publisher: Altium Limited; PackageDescription: Thin Micro SMD, 8 Bump (Large), 0.5mm Pitch; RoHS: Y; PinCount: 8; Code_JEDEC: MO-211-DD; ComponentLink1Description: LP3986 Datasheet; ComponentLink1URL: http://www.national.com/ds/LP/LP3986.pdf; ComponentLink2Description: LP3986 Web Page; ComponentLink2URL: http://www.national.com/pf/LP/LP3986.html; ComponentLink3Description: TLA08CCA Package Page; ComponentLink3URL: http://www.national.com/packaging/folders/tla08cca.html
footprint TLA08CCA (Micro SMD, 8-Leads, Body 1.57x1.57mm, Pitch 0.5mm, NSC Recommended)
pins: A1 OUT2 (power), A2 IN (power), A3 OUT1 (power), B1 EN2 (in), B3 EN1 (in), C1 CBYP, C2 GND (power), C3 GND (power)

## LP3986TL-3333/NOPB
designator U?
Dual Micropower 150 mA Ultra Low-Dropout CMOS Voltage Regulators, 8-pin Micro SMD, Pb-Free; PartNumber: LP3986TL-3333/NOPB; Manufacturer: National Semiconductor; PackageTopMarking: XVD*I 17; PowerWise: N; CompType: LDO IC; Published: 1-Mar-2010; DatasheetVersion: Feb-2007; PackageVersion: revC, Jan-2004; PackageReference: TLA08CCA; Publisher: Altium Limited; PackageDescription: Thin Micro SMD, 8 Bump (Large), 0.5mm Pitch; Supplier 1: Digi-Key; Supplier Part Number 1: LP3986TL-3333TR-ND; Supplier 2: Digi-Key; Supplier Part Number 2: LP3986TL-3333CT-ND; Supplier 3: Digi-Key; Supplier Part Number 3: LP3986TL-3333DKR-ND; RoHS: Y; PinCount: 8; Code_JEDEC: MO-211-DD; ComponentLink1Description: LP3986 Datasheet; ComponentLink1URL: http://www.national.com/ds/LP/LP3986.pdf; ComponentLink2Description: LP3986 Web Page; ComponentLink2URL: http://www.national.com/pf/LP/LP3986.html; ComponentLink3Description: TLA08CCA Package Page; ComponentLink3URL: http://www.national.com/packaging/folders/tla08cca.html
footprint TLA08CCA (Micro SMD, 8-Leads, Body 1.57x1.57mm, Pitch 0.5mm, NSC Recommended)
pins: A1 OUT2 (power), A2 IN (power), A3 OUT1 (power), B1 EN2 (in), B3 EN1 (in), C1 CBYP, C2 GND (power), C3 GND (power)

## LP3986TL-285285
designator U?
Dual Micropower 150 mA Ultra Low-Dropout CMOS Voltage Regulators, 8-pin Micro SMD; PartNumber: LP3986TL-285285; Manufacturer: National Semiconductor; PackageTopMarking: XVD*I 11; PowerWise: N; CompType: LDO IC; Published: 4-Dec-2008; DatasheetVersion: Feb-2007; PackageVersion: revC, Jan-2004; PackageReference: TLA08CCA; Publisher: Altium Limited; PackageDescription: Thin Micro SMD, 8 Bump (Large), 0.5mm Pitch; RoHS: Y; PinCount: 8; Code_JEDEC: MO-211-DD; ComponentLink1Description: LP3986 Datasheet; ComponentLink1URL: http://www.national.com/ds/LP/LP3986.pdf; ComponentLink2Description: LP3986 Web Page; ComponentLink2URL: http://www.national.com/pf/LP/LP3986.html; ComponentLink3Description: TLA08CCA Package Page; ComponentLink3URL: http://www.national.com/packaging/folders/tla08cca.html
footprint TLA08CCA (Micro SMD, 8-Leads, Body 1.57x1.57mm, Pitch 0.5mm, NSC Recommended)
pins: A1 OUT2 (power), A2 IN (power), A3 OUT1 (power), B1 EN2 (in), B3 EN1 (in), C1 CBYP, C2 GND (power), C3 GND (power)

## LP3986TL-285285/NOPB
designator U?
Dual Micropower 150 mA Ultra Low-Dropout CMOS Voltage Regulators, 8-pin Micro SMD, Pb-Free; PartNumber: LP3986TL-285285/NOPB; Manufacturer: National Semiconductor; PackageTopMarking: XVD*I 11; PowerWise: N; CompType: LDO IC; Published: 1-Mar-2010; DatasheetVersion: Feb-2007; PackageVersion: revC, Jan-2004; PackageReference: TLA08CCA; Publisher: Altium Limited; PackageDescription: Thin Micro SMD, 8 Bump (Large), 0.5mm Pitch; Supplier 1: Digi-Key; Supplier Part Number 1: LP3986TL-285285TR-ND; Supplier 2: Digi-Key; Supplier Part Number 2: LP3986TL-285285CT-ND; Supplier 3: Digi-Key; Supplier Part Number 3: LP3986TL-285285DKR-ND; RoHS: Y; PinCount: 8; Code_JEDEC: MO-211-DD; ComponentLink1Description: LP3986 Datasheet; ComponentLink1URL: http://www.national.com/ds/LP/LP3986.pdf; ComponentLink2Description: LP3986 Web Page; ComponentLink2URL: http://www.national.com/pf/LP/LP3986.html; ComponentLink3Description: TLA08CCA Package Page; ComponentLink3URL: http://www.national.com/packaging/folders/tla08cca.html
footprint TLA08CCA (Micro SMD, 8-Leads, Body 1.57x1.57mm, Pitch 0.5mm, NSC Recommended)
pins: A1 OUT2 (power), A2 IN (power), A3 OUT1 (power), B1 EN2 (in), B3 EN1 (in), C1 CBYP, C2 GND (power), C3 GND (power)

## LP3986TLX285285/NOPB
designator U?
Dual Micropower 150 mA Ultra Low-Dropout CMOS Voltage Regulators, 8-pin Micro SMD, Pb-Free; PartNumber: LP3986TLX285285/NOPB; Manufacturer: National Semiconductor; PackageTopMarking: XVD*I 11; PowerWise: N; CompType: LDO IC; Published: 1-Mar-2010; DatasheetVersion: Feb-2007; PackageVersion: revC, Jan-2004; PackageReference: TLA08CCA; Publisher: Altium Limited; PackageDescription: Thin Micro SMD, 8 Bump (Large), 0.5mm Pitch; Supplier 1: Digi-Key; Supplier Part Number 1: LP3986TLX285285-ND; RoHS: Y; PinCount: 8; Code_JEDEC: MO-211-DD; ComponentLink1Description: LP3986 Datasheet; ComponentLink1URL: http://www.national.com/ds/LP/LP3986.pdf; ComponentLink2Description: LP3986 Web Page; ComponentLink2URL: http://www.national.com/pf/LP/LP3986.html; ComponentLink3Description: TLA08CCA Package Page; ComponentLink3URL: http://www.national.com/packaging/folders/tla08cca.html
footprint TLA08CCA (Micro SMD, 8-Leads, Body 1.57x1.57mm, Pitch 0.5mm, NSC Recommended)
pins: A1 OUT2 (power), A2 IN (power), A3 OUT1 (power), B1 EN2 (in), B3 EN1 (in), C1 CBYP, C2 GND (power), C3 GND (power)

## LP3986TLX-2518/NOPB
designator U?
Dual Micropower 150 mA Ultra Low-Dropout CMOS Voltage Regulators, 8-pin Micro SMD, Pb-Free; PartNumber: LP3986TLX-2518/NOPB; Manufacturer: National Semiconductor; PackageTopMarking: XVD*I 30; PowerWise: N; CompType: LDO IC; Published: 1-Mar-2010; DatasheetVersion: Feb-2007; PackageVersion: revC, Jan-2004; PackageReference: TLA08CCA; Publisher: Altium Limited; PackageDescription: Thin Micro SMD, 8 Bump (Large), 0.5mm Pitch; Supplier 1: Digi-Key; Supplier Part Number 1: LP3986TLX-2518-ND; RoHS: Y; PinCount: 8; Code_JEDEC: MO-211-DD; ComponentLink1Description: LP3986 Datasheet; ComponentLink1URL: http://www.national.com/ds/LP/LP3986.pdf; ComponentLink2Description: LP3986 Web Page; ComponentLink2URL: http://www.national.com/pf/LP/LP3986.html; ComponentLink3Description: TLA08CCA Package Page; ComponentLink3URL: http://www.national.com/packaging/folders/tla08cca.html
footprint TLA08CCA (Micro SMD, 8-Leads, Body 1.57x1.57mm, Pitch 0.5mm, NSC Recommended)
pins: A1 OUT2 (power), A2 IN (power), A3 OUT1 (power), B1 EN2 (in), B3 EN1 (in), C1 CBYP, C2 GND (power), C3 GND (power)

## LP3986TLX-2525/NOPB
designator U?
Dual Micropower 150 mA Ultra Low-Dropout CMOS Voltage Regulators, 8-pin Micro SMD, Pb-Free; PartNumber: LP3986TLX-2525/NOPB; Manufacturer: National Semiconductor; PackageTopMarking: XVD*I 27; PowerWise: N; CompType: LDO IC; Published: 1-Mar-2010; DatasheetVersion: Feb-2007; PackageVersion: revC, Jan-2004; PackageReference: TLA08CCA; Publisher: Altium Limited; PackageDescription: Thin Micro SMD, 8 Bump (Large), 0.5mm Pitch; Supplier 1: Digi-Key; Supplier Part Number 1: LP3986TLX-2525-ND; RoHS: Y; PinCount: 8; Code_JEDEC: MO-211-DD; ComponentLink1Description: LP3986 Datasheet; ComponentLink1URL: http://www.national.com/ds/LP/LP3986.pdf; ComponentLink2Description: LP3986 Web Page; ComponentLink2URL: http://www.national.com/pf/LP/LP3986.html; ComponentLink3Description: TLA08CCA Package Page; ComponentLink3URL: http://www.national.com/packaging/folders/tla08cca.html
footprint TLA08CCA (Micro SMD, 8-Leads, Body 1.57x1.57mm, Pitch 0.5mm, NSC Recommended)
pins: A1 OUT2 (power), A2 IN (power), A3 OUT1 (power), B1 EN2 (in), B3 EN1 (in), C1 CBYP, C2 GND (power), C3 GND (power)

## LP3986TLX-2626/NOPB
designator U?
Dual Micropower 150 mA Ultra Low-Dropout CMOS Voltage Regulators, 8-pin Micro SMD, Pb-Free; PartNumber: LP3986TLX-2626/NOPB; Manufacturer: National Semiconductor; PackageTopMarking: XVD*I 28; PowerWise: N; CompType: LDO IC; Published: 1-Mar-2010; DatasheetVersion: Feb-2007; PackageVersion: revC, Jan-2004; PackageReference: TLA08CCA; Publisher: Altium Limited; PackageDescription: Thin Micro SMD, 8 Bump (Large), 0.5mm Pitch; Supplier 1: Digi-Key; Supplier Part Number 1: LP3986TLX-2626-ND; RoHS: Y; PinCount: 8; Code_JEDEC: MO-211-DD; ComponentLink1Description: LP3986 Datasheet; ComponentLink1URL: http://www.national.com/ds/LP/LP3986.pdf; ComponentLink2Description: LP3986 Web Page; ComponentLink2URL: http://www.national.com/pf/LP/LP3986.html; ComponentLink3Description: TLA08CCA Package Page; ComponentLink3URL: http://www.national.com/packaging/folders/tla08cca.html
footprint TLA08CCA (Micro SMD, 8-Leads, Body 1.57x1.57mm, Pitch 0.5mm, NSC Recommended)
pins: A1 OUT2 (power), A2 IN (power), A3 OUT1 (power), B1 EN2 (in), B3 EN1 (in), C1 CBYP, C2 GND (power), C3 GND (power)

## LP3986TLX-2818/NOPB
designator U?
Dual Micropower 150 mA Ultra Low-Dropout CMOS Voltage Regulators, 8-pin Micro SMD, Pb-Free; PartNumber: LP3986TLX-2818/NOPB; Manufacturer: National Semiconductor; PackageTopMarking: XVD*I 25; PowerWise: N; CompType: LDO IC; Published: 1-Mar-2010; DatasheetVersion: Feb-2007; PackageVersion: revC, Jan-2004; PackageReference: TLA08CCA; Publisher: Altium Limited; PackageDescription: Thin Micro SMD, 8 Bump (Large), 0.5mm Pitch; Supplier 1: Digi-Key; Supplier Part Number 1: LP3986TLX-2818-ND; RoHS: Y; PinCount: 8; Code_JEDEC: MO-211-DD; ComponentLink1Description: LP3986 Datasheet; ComponentLink1URL: http://www.national.com/ds/LP/LP3986.pdf; ComponentLink2Description: LP3986 Web Page; ComponentLink2URL: http://www.national.com/pf/LP/LP3986.html; ComponentLink3Description: TLA08CCA Package Page; ComponentLink3URL: http://www.national.com/packaging/folders/tla08cca.html
footprint TLA08CCA (Micro SMD, 8-Leads, Body 1.57x1.57mm, Pitch 0.5mm, NSC Recommended)
pins: A1 OUT2 (power), A2 IN (power), A3 OUT1 (power), B1 EN2 (in), B3 EN1 (in), C1 CBYP, C2 GND (power), C3 GND (power)

## LP3986TLX-2828/NOPB
designator U?
Dual Micropower 150 mA Ultra Low-Dropout CMOS Voltage Regulators, 8-pin Micro SMD, Pb-Free; PartNumber: LP3986TLX-2828/NOPB; Manufacturer: National Semiconductor; PackageTopMarking: XVD*I 10; PowerWise: N; CompType: LDO IC; Published: 1-Mar-2010; DatasheetVersion: Feb-2007; PackageVersion: revC, Jan-2004; PackageReference: TLA08CCA; Publisher: Altium Limited; PackageDescription: Thin Micro SMD, 8 Bump (Large), 0.5mm Pitch; Supplier 1: Digi-Key; Supplier Part Number 1: LP3986TLX-2828-ND; RoHS: Y; PinCount: 8; Code_JEDEC: MO-211-DD; ComponentLink1Description: LP3986 Datasheet; ComponentLink1URL: http://www.national.com/ds/LP/LP3986.pdf; ComponentLink2Description: LP3986 Web Page; ComponentLink2URL: http://www.national.com/pf/LP/LP3986.html; ComponentLink3Description: TLA08CCA Package Page; ComponentLink3URL: http://www.national.com/packaging/folders/tla08cca.html
footprint TLA08CCA (Micro SMD, 8-Leads, Body 1.57x1.57mm, Pitch 0.5mm, NSC Recommended)
pins: A1 OUT2 (power), A2 IN (power), A3 OUT1 (power), B1 EN2 (in), B3 EN1 (in), C1 CBYP, C2 GND (power), C3 GND (power)

## LP3986TLX-2929/NOPB
designator U?
Dual Micropower 150 mA Ultra Low-Dropout CMOS Voltage Regulators, 8-pin Micro SMD, Pb-Free; PartNumber: LP3986TLX-2929/NOPB; Manufacturer: National Semiconductor; PackageTopMarking: XVD*I 15; PowerWise: N; CompType: LDO IC; Published: 1-Mar-2010; DatasheetVersion: Feb-2007; PackageVersion: revC, Jan-2004; PackageReference: TLA08CCA; Publisher: Altium Limited; PackageDescription: Thin Micro SMD, 8 Bump (Large), 0.5mm Pitch; Supplier 1: Digi-Key; Supplier Part Number 1: LP3986TLX-2929-ND; RoHS: Y; PinCount: 8; Code_JEDEC: MO-211-DD; ComponentLink1Description: LP3986 Datasheet; ComponentLink1URL: http://www.national.com/ds/LP/LP3986.pdf; ComponentLink2Description: LP3986 Web Page; ComponentLink2URL: http://www.national.com/pf/LP/LP3986.html; ComponentLink3Description: TLA08CCA Package Page; ComponentLink3URL: http://www.national.com/packaging/folders/tla08cca.html
footprint TLA08CCA (Micro SMD, 8-Leads, Body 1.57x1.57mm, Pitch 0.5mm, NSC Recommended)
pins: A1 OUT2 (power), A2 IN (power), A3 OUT1 (power), B1 EN2 (in), B3 EN1 (in), C1 CBYP, C2 GND (power), C3 GND (power)

## LP3986TLX-3028/NOPB
designator U?
Dual Micropower 150 mA Ultra Low-Dropout CMOS Voltage Regulators, 8-pin Micro SMD, Pb-Free; PartNumber: LP3986TLX-3028/NOPB; Manufacturer: National Semiconductor; PackageTopMarking: XVD*I 26; PowerWise: N; CompType: LDO IC; Published: 1-Mar-2010; DatasheetVersion: Feb-2007; PackageVersion: revC, Jan-2004; PackageReference: TLA08CCA; Publisher: Altium Limited; PackageDescription: Thin Micro SMD, 8 Bump (Large), 0.5mm Pitch; Supplier 1: Digi-Key; Supplier Part Number 1: LP3986TLX-3028-ND; RoHS: Y; PinCount: 8; Code_JEDEC: MO-211-DD; ComponentLink1Description: LP3986 Datasheet; ComponentLink1URL: http://www.national.com/ds/LP/LP3986.pdf; ComponentLink2Description: LP3986 Web Page; ComponentLink2URL: http://www.national.com/pf/LP/LP3986.html; ComponentLink3Description: TLA08CCA Package Page; ComponentLink3URL: http://www.national.com/packaging/folders/tla08cca.html
footprint TLA08CCA (Micro SMD, 8-Leads, Body 1.57x1.57mm, Pitch 0.5mm, NSC Recommended)
pins: A1 OUT2 (power), A2 IN (power), A3 OUT1 (power), B1 EN2 (in), B3 EN1 (in), C1 CBYP, C2 GND (power), C3 GND (power)

## LP3986TLX-3030/NOPB
designator U?
Dual Micropower 150 mA Ultra Low-Dropout CMOS Voltage Regulators, 8-pin Micro SMD, Pb-Free; PartNumber: LP3986TLX-3030/NOPB; Manufacturer: National Semiconductor; PackageTopMarking: XVD*I 12; PowerWise: N; CompType: LDO IC; Published: 1-Mar-2010; DatasheetVersion: Feb-2007; PackageVersion: revC, Jan-2004; PackageReference: TLA08CCA; Publisher: Altium Limited; PackageDescription: Thin Micro SMD, 8 Bump (Large), 0.5mm Pitch; Supplier 1: Digi-Key; Supplier Part Number 1: LP3986TLX-3030-ND; RoHS: Y; PinCount: 8; Code_JEDEC: MO-211-DD; ComponentLink1Description: LP3986 Datasheet; ComponentLink1URL: http://www.national.com/ds/LP/LP3986.pdf; ComponentLink2Description: LP3986 Web Page; ComponentLink2URL: http://www.national.com/pf/LP/LP3986.html; ComponentLink3Description: TLA08CCA Package Page; ComponentLink3URL: http://www.national.com/packaging/folders/tla08cca.html
footprint TLA08CCA (Micro SMD, 8-Leads, Body 1.57x1.57mm, Pitch 0.5mm, NSC Recommended)
pins: A1 OUT2 (power), A2 IN (power), A3 OUT1 (power), B1 EN2 (in), B3 EN1 (in), C1 CBYP, C2 GND (power), C3 GND (power)